# Altium footprint library simcom.PcbLib: 10 footprints
Each footprint in its own frame and in the unit in brackets; x right, y up, seen from the top. Pads: shape width x height; smd on the part's side, far side on the other; paste and mask are expansions set on the pad; w line width, h text height; cw(c..) or ccw(c..) is an arc to the next point about the centre after c.
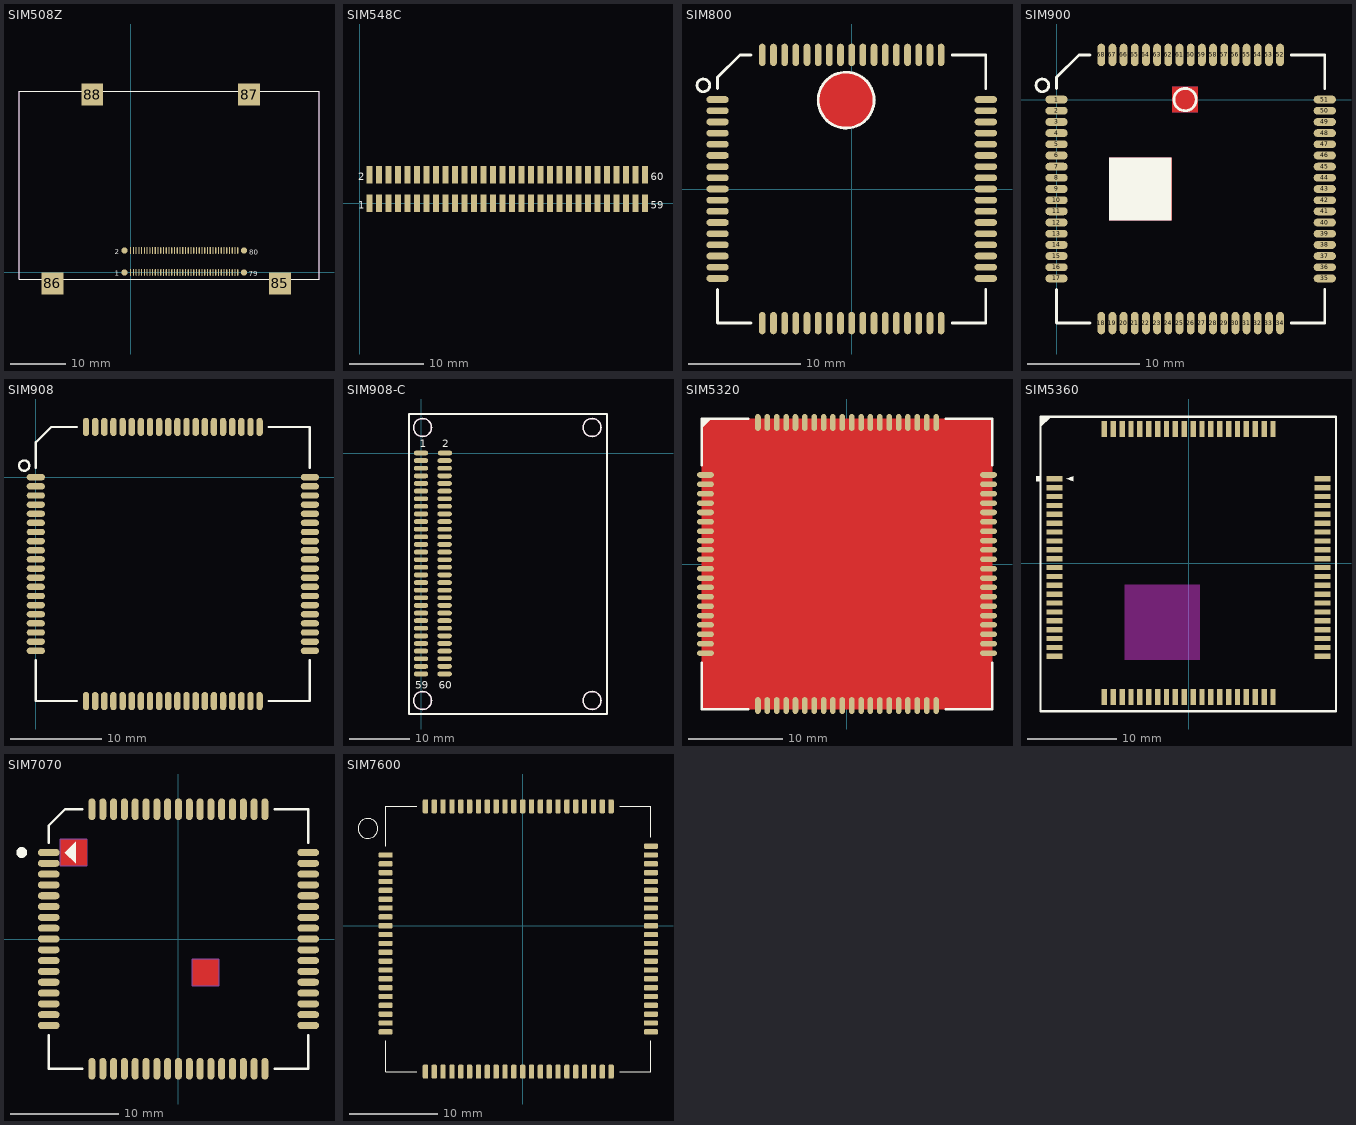
[diagram p0: the footprints below, top view; thin cyan lines are the x and y axes]

## SIM508Z [mil]
pads (88):
  rect 8.67x47.23 smd: 1(0,0) 10(78.73,157.48) 20(177.17,157.48) 30(275.58,157.48) 40(374,157.48) 50(472.43,157.48) 60(570.87,157.48) 70(669.28,157.48)
  oval 8.67x47.23 smd: 2(0,157.48) 3(19.68,0) 4(19.68,157.48) 5(39.37,0) 6(39.37,157.48) 7(59.05,0) 8(59.05,157.48) 9(78.73,0) 11(98.43,0) 12(98.43,157.48) 13(118.12,0) 14(118.12,157.48) 15(137.8,0) 16(137.8,157.48) 17(157.48,0) 18(157.48,157.48) 19(177.17,0) 21(196.85,0) 22(196.85,157.48) 23(216.53,0) 24(216.53,157.48) 25(236.22,0) 26(236.22,157.48) 27(255.9,0) 28(255.9,157.48) 29(275.58,0) 31(295.28,0) 32(295.28,157.48) 33(314.97,0) 34(314.97,157.48) 35(334.65,0) 36(334.65,157.48) 37(354.33,0) 38(354.33,157.48) 39(374,0) 41(393.7,0) 42(393.7,157.48) 43(413.38,0) 44(413.38,157.48) 45(433.07,0) 46(433.07,157.48) 47(452.75,0) 48(452.75,157.48) 49(472.43,0) 51(492.13,0) 52(492.13,157.48) 53(511.82,0) 54(511.82,157.48) 55(531.5,0) 56(531.5,157.48) 57(551.18,0) 58(551.18,157.48) 59(570.87,0) 61(590.55,0) 62(590.55,157.48) 63(610.23,0) 64(610.23,157.48) 65(629.92,0) 66(629.92,157.48) 67(649.6,0) 68(649.6,157.48) 69(669.28,0) 71(689,0) 72(689,157.48) 73(708.67,0) 74(708.67,157.48) 75(728.35,0) 76(728.35,157.48) 77(748.03,0) 78(748.03,157.48) 79(767.72,0) 80(767.72,157.48)
  round 44 smd: 81(-44.28,157.48) 82(-44.28,0) 83(812,0) 84(812,157.48)
  rect 157.47x157.47 smd: 85(1070.47,-78.55) 86(-561.42,-78.55) 87(850,1275) 88(-275,1275)
Top Overlay:
  lines w8: -800,-50 1350,-50 1350,1300 -800,1300 -800,-50
  text "2" at -112.48,132.32 h37.5
  text "1" at -112.48,-24.57 h37.5
  text "79" at 845.95,-28.5 h37.5
  text "80" at 849.88,128.38 h37.5
Mechanical 1:
  lines w8: -800,-50 -800,1300 1350,1300 1350,-50 -800,-50

## SIM548C [mm]
pads (60):
  rect 0.799x2.399 smd: 1(1.27,0) 2(1.27,3.81) 3(2.54,0) 4(2.54,3.81) 5(3.81,0) 6(3.81,3.81) 7(5.08,0) 8(5.08,3.81) 9(6.35,0) 10(6.35,3.81) 11(7.62,0) 12(7.62,3.81) 13(8.89,0) 14(8.89,3.81) 15(10.16,0) 16(10.16,3.81) 17(11.43,0) 18(11.43,3.81) 19(12.7,0) 20(12.7,3.81) 21(13.97,0) 22(13.97,3.81) 23(15.24,0) 24(15.24,3.81) 25(16.51,0) 26(16.51,3.81) 27(17.78,0) 28(17.78,3.81) 29(19.05,0) 30(19.05,3.81) 31(20.32,0) 32(20.32,3.81) 33(21.59,0) 34(21.59,3.81) 35(22.86,0) 36(22.86,3.81) 37(24.13,0) 38(24.13,3.81) 39(25.4,0) 40(25.4,3.81) 41(26.67,0) 42(26.67,3.81) 43(27.94,0) 44(27.94,3.81) 45(29.21,0) 46(29.21,3.81) 47(30.48,0) 48(30.48,3.81) 49(31.75,0) 50(31.75,3.81) 51(33.02,0) 52(33.02,3.81) 53(34.29,0) 54(34.29,3.81) 55(35.56,0) 56(35.56,3.81) 57(36.83,0) 58(36.83,3.81) 59(38.1,0) 60(38.1,3.81)
Top Overlay:
  text "59" at 38.862,-0.762 h0.95
  text "60" at 38.862,3.048 h0.95
  text "2" at -0.254,3.048 h0.95
  text "1" at -0.254,-0.762 h0.95

## SIM800 [mm]
pads (68):
  oval 2x0.6 smd: 1(-12,8) 2(-12,7) 3(-12,6) 4(-12,5) 5(-12,4) 6(-12,3) 7(-12,2) 8(-12,1) 9(-12,0) 10(-12,-1) 11(-12,-2) 12(-12,-3) 13(-12,-4) 14(-12,-5) 15(-12,-6) 16(-12,-7) 17(-12,-8) 35(12,-8) 36(12,-7) 37(12,-6) 38(12,-5) 39(12,-4) 40(12,-3) 41(12,-2) 42(12,-1) 43(12,0) 44(12,1) 45(12,2) 46(12,3) 47(12,4) 48(12,5) 49(12,6) 50(12,7) 51(12,8)
  oval 0.6x2 smd: 18(-8,-12) 19(-7,-12) 20(-6,-12) 21(-5,-12) 22(-4,-12) 23(-3,-12) 24(-2,-12) 25(-1,-12) 26(0,-12) 27(1,-12) 28(2,-12) 29(3,-12) 30(4,-12) 31(5,-12) 32(6,-12) 33(7,-12) 34(8,-12) 52(8,12) 53(7,12) 54(6,12) 55(5,12) 56(4,12) 57(3,12) 58(2,12) 59(1,12) 60(0,12) 61(-1,12) 62(-2,12) 63(-3,12) 64(-4,12) 65(-5,12) 66(-6,12) 67(-7,12) 68(-8,12)
Top Layer:
  pour cut-out: -3,7.95 -3,8.196 -2.904,8.679 -2.715,9.134 -2.442,9.544 -2.094,9.892 -1.684,10.165 -1.229,10.354 -0.746,10.45 -0.5,10.45 -0.254,10.45 0.229,10.354 0.684,10.165 1.094,9.892 1.442,9.544 1.715,9.134 1.904,8.679 2,8.196 2,7.95 2,7.704 1.904,7.221 1.715,6.766 1.442,6.356 1.094,6.008 0.684,5.735 0.229,5.546 -0.254,5.45 -0.5,5.45 -0.746,5.45 -1.229,5.546 -1.684,5.735 -2.094,6.008 -2.442,6.356 -2.715,6.766 -2.904,7.221 -3,7.704
Bottom Layer:
  pour cut-out: -0.5,10.45 -0.254,10.45 0.229,10.354 0.684,10.165 1.094,9.892 1.442,9.544 1.715,9.134 1.904,8.679 2,8.196 2,7.95 2,7.704 1.904,7.221 1.715,6.766 1.442,6.356 1.094,6.008 0.684,5.735 0.229,5.546 -0.254,5.45 -0.5,5.45 -0.746,5.45 -1.229,5.546 -1.684,5.735 -2.094,6.008 -2.442,6.356 -2.715,6.766 -2.904,7.221 -3,7.704 -3,7.95 -3,8.196 -2.904,8.679 -2.715,9.134 -2.442,9.544 -2.094,9.892 -1.684,10.165 -1.229,10.354 -0.746,10.45
Top Overlay:
  circle w0.254: c-0.5,7.95 r2.5
  circle w0.254: c-13.27,9.27 r0.568
  lines w0.254: -12,-9 -12,-12 -9,-12 ; -12,9 -12,10 -10,12 -9,12 ; 9,-12 12,-12 12,-9 ; 9,12 12,12 12,9
Mechanical 1:
  lines w0.254: -3,7.95 2,7.95 ; -0.5,5.45 -0.5,10.45
3D body "User Library-SIM900.step": height 3.02, standoff 0, extent -12,-12.001 12,11.999

## SIM900 [mm]
pads (68):
  oval 2x0.7 smd: 1(0,0) 2(0,-1) 3(0,-2) 4(0,-3) 5(0,-4) 6(0,-5) 7(0,-6) 8(0,-7) 9(0,-8) 10(0,-9) 11(0,-10) 12(0,-11) 13(0,-12) 14(0,-13) 15(0,-14) 16(0,-15) 17(0,-16) 35(24,-16) 36(24,-15) 37(24,-14) 38(24,-13) 39(24,-12) 40(24,-11) 41(24,-10) 42(24,-9) 43(24,-8) 44(24,-7) 45(24,-6) 46(24,-5) 47(24,-4) 48(24,-3) 49(24,-2) 50(24,-1) 51(24,0)
  oval 0.7x2 smd: 18(4,-20) 19(5,-20) 20(6,-20) 21(7,-20) 22(8,-20) 23(9,-20) 24(10,-20) 25(11,-20) 26(12,-20) 27(13,-20) 28(14,-20) 29(15,-20) 30(16,-20) 31(17,-20) 32(18,-20) 33(19,-20) 34(20,-20) 52(20,4) 53(19,4) 54(18,4) 55(17,4) 56(16,4) 57(15,4) 58(14,4) 59(13,4) 60(12,4) 61(11,4) 62(10,4) 63(9,4) 64(8,4) 65(7,4) 66(6,4) 67(5,4) 68(4,4)
Top Layer:
  pour cut-out: 10.363,1.143 12.649,1.143 12.649,-1.143 10.363,-1.143
  pour cut-out: 4.699,-5.207 10.287,-5.207 10.287,-10.795 4.699,-10.795
Bottom Layer:
  pour cut-out: 4.699,-5.207 10.287,-5.207 10.287,-10.795 4.699,-10.795
  pour cut-out: 10.363,1.143 12.649,1.143 12.649,-1.143 10.363,-1.143
Top Overlay:
  circle w0.254: c11.5,0 r1
  circle w0.254: c-1.27,1.27 r0.568
  rectangle: 4.7,-10.8 10.3,-5.2
  lines w0.254: 0,-17 0,-20 3,-20 ; 0,1 0,2 2,4 3,4 ; 21,-20 24,-20 24,-17 ; 21,4 24,4 24,1
3D body "User Library-SIM900.step": height 3.02, standoff 0, extent 0,-20.001 24,3.999

## SIM908 [mm]
pads (80):
  oval 2x0.7 smd: 1(0,0) 2(0,-1) 3(0,-2) 4(0,-3) 5(0,-4) 6(0,-5) 7(0,-6) 8(0,-7) 9(0,-8) 10(0,-9) 11(0,-10) 12(0,-11) 13(0,-12) 14(0,-13) 15(0,-14) 16(0,-15) 17(0,-16) 18(0,-17) 19(0,-18) 20(0,-19) 41(30,-19) 42(30,-18) 43(30,-17) 44(30,-16) 45(30,-15) 46(30,-14) 47(30,-13) 48(30,-12) 49(30,-11) 50(30,-10) 51(30,-9) 52(30,-8) 53(30,-7) 54(30,-6) 55(30,-5) 56(30,-4) 57(30,-3) 58(30,-2) 59(30,-1) 60(30,0)
  oval 0.7x2 smd: 21(5.5,-24.5) 22(6.5,-24.5) 23(7.5,-24.5) 24(8.5,-24.5) 25(9.5,-24.5) 26(10.5,-24.5) 27(11.5,-24.5) 28(12.5,-24.5) 29(13.5,-24.5) 30(14.5,-24.5) 31(15.5,-24.5) 32(16.5,-24.5) 33(17.5,-24.5) 34(18.5,-24.5) 35(19.5,-24.5) 36(20.5,-24.5) 37(21.5,-24.5) 38(22.5,-24.5) 39(23.5,-24.5) 40(24.5,-24.5) 61(24.5,5.5) 62(23.5,5.5) 63(22.5,5.5) 64(21.5,5.5) 65(20.5,5.5) 66(19.5,5.5) 67(18.5,5.5) 68(17.5,5.5) 69(16.5,5.5) 70(15.5,5.5) 71(14.5,5.5) 72(13.5,5.5) 73(12.5,5.5) 74(11.5,5.5) 75(10.5,5.5) 76(9.5,5.5) 77(8.5,5.5) 78(7.5,5.5) 79(6.5,5.5) 80(5.5,5.5)
Top Overlay:
  circle w0.254: c-1.27,1.27 r0.568
  lines w0.254: 0,-20 0,-24.5 4.5,-24.5 ; 0,1 0,3.81 1.69,5.5 4.5,5.5 ; 25.5,-24.5 30,-24.5 30,-20 ; 25.5,5.5 30,5.5 30,1
3D body "User Library-SIM908.STEP": height 3.19, standoff -0.01, extent -0.016,-24.552 29.984,5.448

## SIM908-C [mm]
pads (60):
  oval 2.4x0.8 smd: 1(0,0) 2(4,0) 3(0,-1.27) 4(3.94,-1.27) 5(0,-2.54) 6(3.94,-2.54) 7(0,-3.81) 8(3.94,-3.81) 9(0,-5.08) 10(3.94,-5.08) 11(0,-6.35) 12(3.94,-6.35) 13(0,-7.62) 14(3.94,-7.62) 15(0,-8.89) 16(3.94,-8.89) 17(0,-10.16) 18(3.94,-10.16) 19(0,-11.43) 20(3.94,-11.43) 21(0,-12.7) 22(3.94,-12.7) 23(0,-13.97) 24(3.94,-13.97) 25(0,-15.24) 26(3.94,-15.24) 27(0,-16.51) 28(3.94,-16.51) 29(0,-17.78) 30(3.94,-17.78) 31(0,-19.05) 32(3.94,-19.05) 33(0,-20.32) 34(3.94,-20.32) 35(0,-21.59) 36(3.94,-21.59) 37(0,-22.86) 38(3.94,-22.86) 39(0,-24.13) 40(3.94,-24.13) 41(0,-25.4) 42(3.94,-25.4) 43(0,-26.67) 44(3.94,-26.67) 45(0,-27.94) 46(3.94,-27.94) 47(0,-29.21) 48(3.94,-29.21) 49(0,-30.48) 50(3.94,-30.48) 51(0,-31.75) 52(3.94,-31.75) 53(0,-33.02) 54(3.94,-33.02) 55(0,-34.29) 56(3.94,-34.29) 57(0,-35.56) 58(3.94,-35.56) 59(0,-36.83) 60(3.94,-36.83)
Top Overlay:
  lines w0.254: -2,-43.5 31,-43.5 31,6.5 -2,6.5 -2,-43.5
  text "1" at -0.25,1 h1.27
  text "2" at 3.5,1 h1.27
  text "59" at -1,-39.25 h1.27
  text "60" at 3,-39.25 h1.27
Top Overlay keep-out:
  circle w0.254: c0.25,4.25 r1.5
  circle w0.254: c0.25,-41.25 r1.5
  circle w0.254: c28.5,4.25 r1.5
  circle w0.254: c28.5,-41.25 r1.5
3D body "User Library-PBD1_27-xx-S (1).step": height 4.5, standoff 0, extent -0.5,-37.465 4.5,0.635

## SIM5320 [mm]
pads (80):
  oval 1.8x0.6 smd: 1(-15.1,9.5) 2(-15.1,8.5) 3(-15.1,7.5) 4(-15.1,6.5) 5(-15.1,5.5) 6(-15.1,4.5) 7(-15.1,3.5) 8(-15.1,2.5) 9(-15.1,1.5) 10(-15.1,0.5) 11(-15.1,-0.5) 12(-15.1,-1.5) 13(-15.1,-2.5) 14(-15.1,-3.5) 15(-15.1,-4.5) 16(-15.1,-5.5) 17(-15.1,-6.5) 18(-15.1,-7.5) 19(-15.1,-8.5) 20(-15.1,-9.5) 41(15.1,-9.5) 42(15.1,-8.5) 43(15.1,-7.5) 44(15.1,-6.5) 45(15.1,-5.5) 46(15.1,-4.5) 47(15.1,-3.5) 48(15.1,-2.5) 49(15.1,-1.5) 50(15.1,-0.5) 51(15.1,0.5) 52(15.1,1.5) 53(15.1,2.5) 54(15.1,3.5) 55(15.1,4.5) 56(15.1,5.5) 57(15.1,6.5) 58(15.1,7.5) 59(15.1,8.5) 60(15.1,9.5)
  oval 0.6x1.8 smd: 21(-9.5,-15.1) 22(-8.5,-15.1) 23(-7.5,-15.1) 24(-6.5,-15.1) 25(-5.5,-15.1) 26(-4.5,-15.1) 27(-3.5,-15.1) 28(-2.5,-15.1) 29(-1.5,-15.1) 30(-0.5,-15.1) 31(0.5,-15.1) 32(1.5,-15.1) 33(2.5,-15.1) 34(3.5,-15.1) 35(4.5,-15.1) 36(5.5,-15.1) 37(6.5,-15.1) 38(7.5,-15.1) 39(8.5,-15.1) 40(9.5,-15.1) 61(9.5,15.1) 62(8.5,15.1) 63(7.5,15.1) 64(6.5,15.1) 65(5.5,15.1) 66(4.5,15.1) 67(3.5,15.1) 68(2.5,15.1) 69(1.5,15.1) 70(0.5,15.1) 71(-0.5,15.1) 72(-1.5,15.1) 73(-2.5,15.1) 74(-3.5,15.1) 75(-4.5,15.1) 76(-5.5,15.1) 77(-6.5,15.1) 78(-7.5,15.1) 79(-8.5,15.1) 80(-9.5,15.1)
Top Layer:
  pour cut-out: -15.5,15.5 15.5,15.5 15.5,-15.5 -15.5,-15.5
Top Overlay:
  region: -15.5,15.5 -15.5,14.5 -14.5,15.5
  lines w0.25: -15.5,-10.5 -15.5,-15.5 -10.5,-15.5 ; -15.5,10.5 -15.5,15.5 -10.5,15.5 ; 10.5,-15.5 15.5,-15.5 15.5,-10.5 ; 10.5,15.5 15.5,15.5 15.5,10.5
Mechanical 1:
  lines w0.254: -15,-15 15,-15 15,15 -15,15 -15,-15
Mechanical 5:
  lines w0.2: -14.992,-14.98 -14.992,14.992 14.98,14.992 14.98,-14.98 -14.992,-14.98
3D body "SIM5320E.STEP": height 2.9, standoff -0.04, extent -15,-14.9 15,15.1

## SIM5360 [mm]
pads (82):
  rect 1.8x0.6 smd: 1(-15.1,9.5) 2(-15.1,8.5) 3(-15.1,7.5) 4(-15.1,6.5) 5(-15.1,5.5) 6(-15.1,4.5) 7(-15.1,3.5) 8(-15.1,2.5) 9(-15.1,1.5) 10(-15.1,0.5) 11(-15.1,-0.5) 12(-15.1,-1.5) 13(-15.1,-2.5) 14(-15.1,-3.5) 15(-15.1,-4.5) 16(-15.1,-5.5) 17(-15.1,-6.5) 18(-15.1,-7.5) 19(-15.1,-8.5) 20(-15.1,-9.5) 41(15.1,-9.5) 42(15.1,-8.5) 43(15.1,-7.5) 44(15.1,-6.5) 45(15.1,-5.5) 46(15.1,-4.5) 47(15.1,-3.5) 48(15.1,-2.5) 49(15.1,-1.5) 50(15.1,-0.5) 51(15.1,0.5) 52(15.1,1.5) 53(15.1,2.5) 54(15.1,3.5) 55(15.1,4.5) 56(15.1,5.5) 57(15.1,6.5) 58(15.1,7.5) 59(15.1,8.5) 60(15.1,9.5) 81(-15.1,-10.5) 82(15.1,-10.5)
  rect 0.6x1.8 smd: 21(-9.5,-15.1) 22(-8.5,-15.1) 23(-7.5,-15.1) 24(-6.5,-15.1) 25(-5.5,-15.1) 26(-4.5,-15.1) 27(-3.5,-15.1) 28(-2.5,-15.1) 29(-1.5,-15.1) 30(-0.5,-15.1) 31(0.5,-15.1) 32(1.5,-15.1) 33(2.5,-15.1) 34(3.5,-15.1) 35(4.5,-15.1) 36(5.5,-15.1) 37(6.5,-15.1) 38(7.5,-15.1) 39(8.5,-15.1) 40(9.5,-15.1) 61(9.5,15.1) 62(8.5,15.1) 63(7.5,15.1) 64(6.5,15.1) 65(5.5,15.1) 66(4.5,15.1) 67(3.5,15.1) 68(2.5,15.1) 69(1.5,15.1) 70(0.5,15.1) 71(-0.5,15.1) 72(-1.5,15.1) 73(-2.5,15.1) 74(-3.5,15.1) 75(-4.5,15.1) 76(-5.5,15.1) 77(-6.5,15.1) 78(-7.5,15.1) 79(-8.5,15.1) 80(-9.5,15.1)
Top Overlay:
  rectangle: -17.2,9.2 -16.7,9.8
  region: -16.7,16.5 -16.7,15.28 -15.53,16.45 -15.53,16.5
  region: -13.8,9.5 -13,9.8 -13,9.2
  lines w0.254: -16.7,-16.7 16.6,-16.7 16.6,16.5 -16.7,16.5 -16.7,9.5 -16.7,-16.7
Keep-Out Layer:
  rectangle: -7.25,-10.9 1.25,-2.4
3D body: height 2.9, standoff 1.2, extent -14.2,-14 14,14.2
3D body: height 1.2, standoff 0, extent -15,-14.9 15,15.1

## SIM7070 [mm]
pads (68):
  oval 2x0.65 smd: 1(-12,8) 2(-12,7) 3(-12,6) 4(-12,5) 5(-12,4) 6(-12,3) 7(-12,2) 8(-12,1) 9(-12,0) 10(-12,-1) 11(-12,-2) 12(-12,-3) 13(-12,-4) 14(-12,-5) 15(-12,-6) 16(-12,-7) 17(-12,-8) 35(12,-8) 36(12,-7) 37(12,-6) 38(12,-5) 39(12,-4) 40(12,-3) 41(12,-2) 42(12,-1) 43(12,0) 44(12,1) 45(12,2) 46(12,3) 47(12,4) 48(12,5) 49(12,6) 50(12,7) 51(12,8)
  oval 0.65x2 smd: 18(-8,-12) 19(-7,-12) 20(-6,-12) 21(-5,-12) 22(-4,-12) 23(-3,-12) 24(-2,-12) 25(-1,-12) 26(0,-12) 27(1,-12) 28(2,-12) 29(3,-12) 30(4,-12) 31(5,-12) 32(6,-12) 33(7,-12) 34(8,-12) 52(8,12) 53(7,12) 54(6,12) 55(5,12) 56(4,12) 57(3,12) 58(2,12) 59(1,12) 60(0,12) 61(-1,12) 62(-2,12) 63(-3,12) 64(-4,12) 65(-5,12) 66(-6,12) 67(-7,12) 68(-8,12)
Top Layer:
  pour cut-out: 1.3,-1.9 3.7,-1.9 3.7,-4.3 1.3,-4.3
  pour cut-out: -10.9,9.2 -8.5,9.2 -8.5,6.8 -10.9,6.8
Bottom Layer:
  pour cut-out: 1.3,-1.9 3.7,-1.9 3.7,-4.3 1.3,-4.3
  pour cut-out: -10.9,9.2 -8.5,9.2 -8.5,6.8 -10.9,6.8
Top Overlay:
  circle w0.5: c-14.5,8 r0.25
  region: -10.5,8 -9.5,9 -9.5,7
  lines w0.2: -12,-8.89 -12,-12 -8.89,-12 ; -12,8.89 -12,10.5 -10.5,12 -8.89,12 ; 8.89,-12 12,-12 12,-8.89 ; 8.89,12 12,12 12,8.89
Mechanical 1:
  lines w0.2: -10.9,6.8 -8.5,6.8 -8.5,9.2 -10.9,9.2 -10.9,6.8 ; 1.3,-4.3 3.7,-4.3 3.7,-1.9 1.3,-1.9 1.3,-4.3
3D body "SIM7070.step": height 3.02, standoff 0, extent -12,-12 12,12

## SIM7600 [mm] "SIM7600 4G"
height 2
pads (87):
  rrect50% 1.6x0.6 smd: 1(-15.5,8) 2(-15.5,7) 3(-15.5,6) 4(-15.5,5) 5(-15.5,4) 6(-15.5,3) 7(-15.5,2) 8(-15.5,1) 9(-15.5,0) 10(-15.5,-1) 11(-15.5,-2) 12(-15.5,-3) 13(-15.5,-4) 14(-15.5,-5) 15(-15.5,-6) 16(-15.5,-7) 17(-15.5,-8) 18(-15.5,-9) 19(-15.5,-10) 20(-15.5,-11) 41(14.5,-11) 42(14.5,-10) 43(14.5,-9) 44(14.5,-8) 45(14.5,-7) 46(14.5,-6) 47(14.5,-5) 48(14.5,-4) 49(14.5,-3) 50(14.5,-2) 51(14.5,-1) 52(14.5,0) 53(14.5,1) 54(14.5,2) 55(14.5,3) 56(14.5,4) 57(14.5,5) 58(14.5,6) 59(14.5,7) 60(14.5,8) 81(-15.5,-12) 82(14.5,-12) 85(14.5,9)
  rrect50% 0.6x1.6 smd: 21(-10,-16.5) 22(-9,-16.5) 23(-8,-16.5) 24(-7,-16.5) 25(-6,-16.5) 26(-5,-16.5) 27(-4,-16.5) 28(-3,-16.5) 29(-2,-16.5) 30(-1,-16.5) 31(0,-16.5) 32(1,-16.5) 33(2,-16.5) 34(3,-16.5) 35(4,-16.5) 36(5,-16.5) 37(6,-16.5) 38(7,-16.5) 39(8,-16.5) 40(9,-16.5) 61(9,13.5) 62(8,13.5) 63(7,13.5) 64(6,13.5) 65(5,13.5) 66(4,13.5) 67(3,13.5) 68(2,13.5) 69(1,13.5) 70(0,13.5) 71(-1,13.5) 72(-2,13.5) 73(-3,13.5) 74(-4,13.5) 75(-5,13.5) 76(-6,13.5) 77(-7,13.5) 78(-8,13.5) 79(-9,13.5) 80(-10,13.5) 83(10,-16.5) 84(-11,-16.5) 86(-11,13.5) 87(10,13.5)
Top Overlay:
  circle w0.08: c-17.5,11 r1.118
  lines w0.08: -15.5,-13 -15.5,-16.5 -12,-16.5 ; -15.5,9 -15.5,13.5 -12,13.5 ; 11,-16.5 14.5,-16.5 14.5,-13 ; 11,13.5 14.5,13.5 14.5,10